# EAGLE library part MAX44009EDT+T (library boneyard)
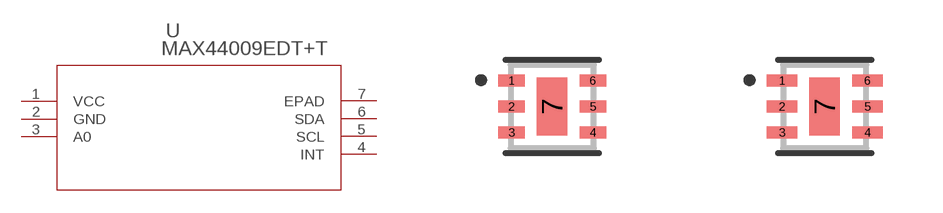
[diagram p0: symbol with the pads of 21-0490D; footprints 21-0490D, 21-0490D-M]

Designator prefix U

## MAX44009EDT+T (MANUFACTURER_PART_NUMBER: MAX44009EDT+T; VENDOR: Maxim Integrated Products)  [21-0490D]
1  VCC  pwr
2  GND  pwr
3  A0  pas
4  INT  out
5  SCL  pas
6  SDA  pas
7  EPAD  pas

## MAX44009EDT+T21-0490D-M (MANUFACTURER_PART_NUMBER: MAX44009EDT+T; VENDOR: Maxim Integrated Products)  [21-0490D-M]
Pads as for 21-0490D

## MAX44009EDT+T21-0490D-L (MANUFACTURER_PART_NUMBER: MAX44009EDT+T; VENDOR: Maxim Integrated Products)  [21-0490D-L]
Pads as for 21-0490D

## Footprint 21-0490D (pad centres in mm)
smd 0.66 x 0.305: 1 -1.016,0.65; 2 -1.016,0; 3 -1.016,-0.65; 4 1.016,-0.65; 5 1.016,0; 6 1.016,0.65
smd 0.762 x 1.448: 7 0,0

## Footprint 21-0490D-M (pad centres in mm)
smd 0.762 x 0.305: 1 -1.067,0.65; 2 -1.067,0; 3 -1.067,-0.65; 4 1.067,-0.65; 5 1.067,0; 6 1.067,0.65
smd 0.762 x 1.448: 7 0,0

## Footprint 21-0490D-L (pad centres in mm)
smd 0.559 x 0.305: 1 -0.965,0.65; 2 -0.965,0; 3 -0.965,-0.65; 4 0.965,-0.65; 5 0.965,0; 6 0.965,0.65
smd 0.762 x 1.448: 7 0,0